# EAGLE library part BQ25303JRTER (library ICs)
Charger IC Lithium Ion/Polymer 16-WQFN (3x3)
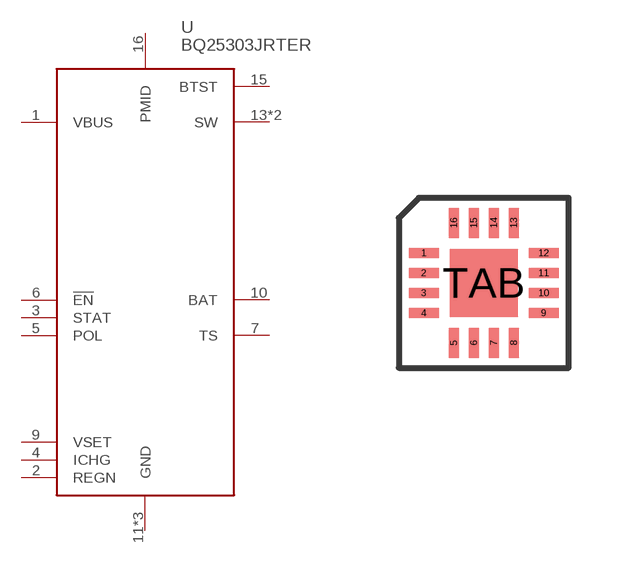
[diagram p319: symbol with the pads of QFN16; footprint QFN16]

Designator prefix U

## BQ25303JRTER (DIGIKEY: 296-BQ25303JRTERCT-ND; HEIGHT: 1; PRICE_PER: 1.72; VALUE: BQ25303)  [QFN16]
1  VBUS
2  REGN
3  STAT
4  ICHG
5  POL
6  !EN
7  TS
9  VSET
10  BAT
11  GND
12  GND
13  SW
14  SW
15  BTST
16  PMID
TAB  GND

## Footprint QFN16 (pad centres in mm)
smd 0.75 x 0.25: 1 -1.5,0.75; 2 -1.5,0.25; 3 -1.5,-0.25; 4 -1.5,-0.75; 9 1.5,-0.75; 10 1.5,-0.25; 11 1.5,0.25; 12 1.5,0.75
smd 0.25 x 0.75: 5 -0.75,-1.5; 6 -0.25,-1.5; 7 0.25,-1.5; 8 0.75,-1.5; 13 0.75,1.5; 14 0.25,1.5; 15 -0.25,1.5; 16 -0.75,1.5
smd 1.7 x 1.7: TAB 0,0